# Altium schematic symbol library SCH - DIODES - KINGBRIGHT APHBM2012SURKZGKC.SCHLIB: 1 symbol
Pins are listed as number, name and electrical type; pins without a type are passive.

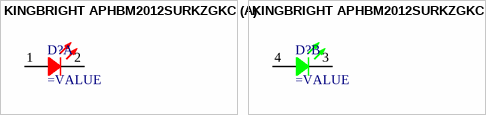
[diagram p0: symbol KINGBRIGHT APHBM2012SURKZGKC]

## KINGBRIGHT APHBM2012SURKZGKC
designator D?
Chip LED
part A pins: 1, 2
part B pins: 3, 4